# Altium schematic symbol library ADG1436YRUZ.SchLib: 1 symbol
Pins are listed as number, name and electrical type; pins without a type are passive.

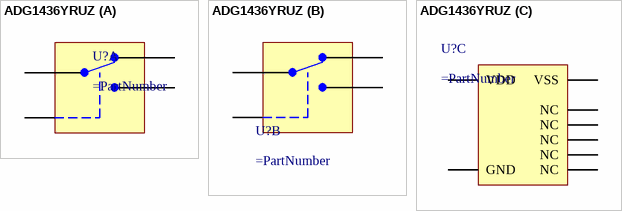
[diagram p0: symbol ADG1436YRUZ]

## ADG1436YRUZ
designator U?
part A pins: 1 IN1, 2 S1A, 3 D1, 4 S1B
part B pins: 9 IN2, 10 S2A, 11 D2, 12 S2B
part C pins: 5 VSS, 6 GND, 7 NC, 8 NC, 13 VDD, 14 NC, 15 NC, 16 NC